# EAGLE library part MAB64Q (library con-vg)
CONNECTOR male, 64 pins, type Q, rows AB, grid 2.54 mm
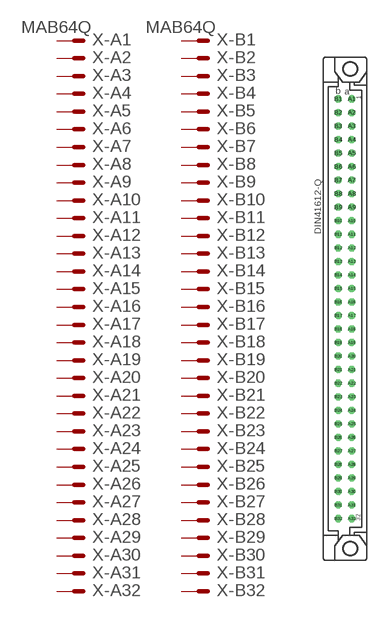
[diagram p102: symbol with the pads of MAB64Q; footprint MAB64Q]

Designator prefix X; gates -A1=MVAL -A2=MAL -A3=MAL -A4=MAL -A5=MAL -A6=MAL -A7=MAL -A8=MAL -A9=MAL -A10=MAL -A11=MAL -A12=MAL -A13=MAL -A14=MAL -A15=MAL -A16=MAL -A17=MAL -A18=MAL -A19=MAL -A20=MAL -A21=MAL -A22=MAL -A23=MAL -A24=MAL -A25=MAL -A26=MAL -A27=MAL -A28=MAL -A29=MAL -A30=MAL -A31=MAL -A32=MAL -B1=MVAL -B2=MAL -B3=MAL -B4=MAL -B5=MAL -B6=MAL -B7=MAL -B8=MAL -B9=MAL -B10=MAL -B11=MAL -B12=MAL -B13=MAL -B14=MAL -B15=MAL -B16=MAL -B17=MAL -B18=MAL -B19=MAL -B20=MAL -B21=MAL -B22=MAL -B23=MAL -B24=MAL -B25=MAL -B26=MAL -B27=MAL -B28=MAL -B29=MAL -B30=MAL -B31=MAL -B32=MAL

## MAB64Q  [MAB64Q]
A1  -A1:S  pas
A2  -A2:S  pas
A3  -A3:S  pas
A4  -A4:S  pas
A5  -A5:S  pas
A6  -A6:S  pas
A7  -A7:S  pas
A8  -A8:S  pas
A9  -A9:S  pas
A10  -A10:S  pas
A11  -A11:S  pas
A12  -A12:S  pas
A13  -A13:S  pas
A14  -A14:S  pas
A15  -A15:S  pas
A16  -A16:S  pas
A17  -A17:S  pas
A18  -A18:S  pas
A19  -A19:S  pas
A20  -A20:S  pas
A21  -A21:S  pas
A22  -A22:S  pas
A23  -A23:S  pas
A24  -A24:S  pas
A25  -A25:S  pas
A26  -A26:S  pas
A27  -A27:S  pas
A28  -A28:S  pas
A29  -A29:S  pas
A30  -A30:S  pas
A31  -A31:S  pas
A32  -A32:S  pas
B1  -B1:S  pas
B2  -B2:S  pas
B3  -B3:S  pas
B4  -B4:S  pas
B5  -B5:S  pas
B6  -B6:S  pas
B7  -B7:S  pas
B8  -B8:S  pas
B9  -B9:S  pas
B10  -B10:S  pas
B11  -B11:S  pas
B12  -B12:S  pas
B13  -B13:S  pas
B14  -B14:S  pas
B15  -B15:S  pas
B16  -B16:S  pas
B17  -B17:S  pas
B18  -B18:S  pas
B19  -B19:S  pas
B20  -B20:S  pas
B21  -B21:S  pas
B22  -B22:S  pas
B23  -B23:S  pas
B24  -B24:S  pas
B25  -B25:S  pas
B26  -B26:S  pas
B27  -B27:S  pas
B28  -B28:S  pas
B29  -B29:S  pas
B30  -B30:S  pas
B31  -B31:S  pas
B32  -B32:S  pas

## Footprint MAB64Q (pad centres in mm)
CONNECTOR male, 64 pins, type Q, rows AB, grid 2.54 mm
drill 0.813 octagon: A1 1.27,39.37; A2 1.27,36.83; A3 1.27,34.29; A4 1.27,31.75; A5 1.27,29.21; A6 1.27,26.67; A7 1.27,24.13; A8 1.27,21.59; A9 1.27,19.05; A10 1.27,16.51; A11 1.27,13.97; A12 1.27,11.43; A13 1.27,8.89; A14 1.27,6.35; A15 1.27,3.81; A16 1.27,1.27; A17 1.27,-1.27; A18 1.27,-3.81; A19 1.27,-6.35; A20 1.27,-8.89; A21 1.27,-11.43; A22 1.27,-13.97; A23 1.27,-16.51; A24 1.27,-19.05; A25 1.27,-21.59; A26 1.27,-24.13; A27 1.27,-26.67; A28 1.27,-29.21; A29 1.27,-31.75; A30 1.27,-34.29; A31 1.27,-36.83; A32 1.27,-39.37; B1 -1.27,39.37; B2 -1.27,36.83; B3 -1.27,34.29; B4 -1.27,31.75; B5 -1.27,29.21; B6 -1.27,26.67; B7 -1.27,24.13; B8 -1.27,21.59; B9 -1.27,19.05; B10 -1.27,16.51; B11 -1.27,13.97; B12 -1.27,11.43; B13 -1.27,8.89; B14 -1.27,6.35; B15 -1.27,3.81; B16 -1.27,1.27; B17 -1.27,-1.27; B18 -1.27,-3.81; B19 -1.27,-6.35; B20 -1.27,-8.89; B21 -1.27,-11.43; B22 -1.27,-13.97; B23 -1.27,-16.51; B24 -1.27,-19.05; B25 -1.27,-21.59; B26 -1.27,-24.13; B27 -1.27,-26.67; B28 -1.27,-29.21; B29 -1.27,-31.75; B30 -1.27,-34.29; B31 -1.27,-36.83; B32 -1.27,-39.37
hole 2.794 at 0.965,-45
hole 2.794 at 0.965,45